# Altium footprint library INFINITY.Microchip.PcbLib: 12 footprints
Each footprint in its own frame and in the unit in brackets; x right, y up, seen from the top. Pads: shape width x height; smd on the part's side, far side on the other; paste and mask are expansions set on the pad; w line width, h text height; cw(c..) or ccw(c..) is an arc to the next point about the centre after c.
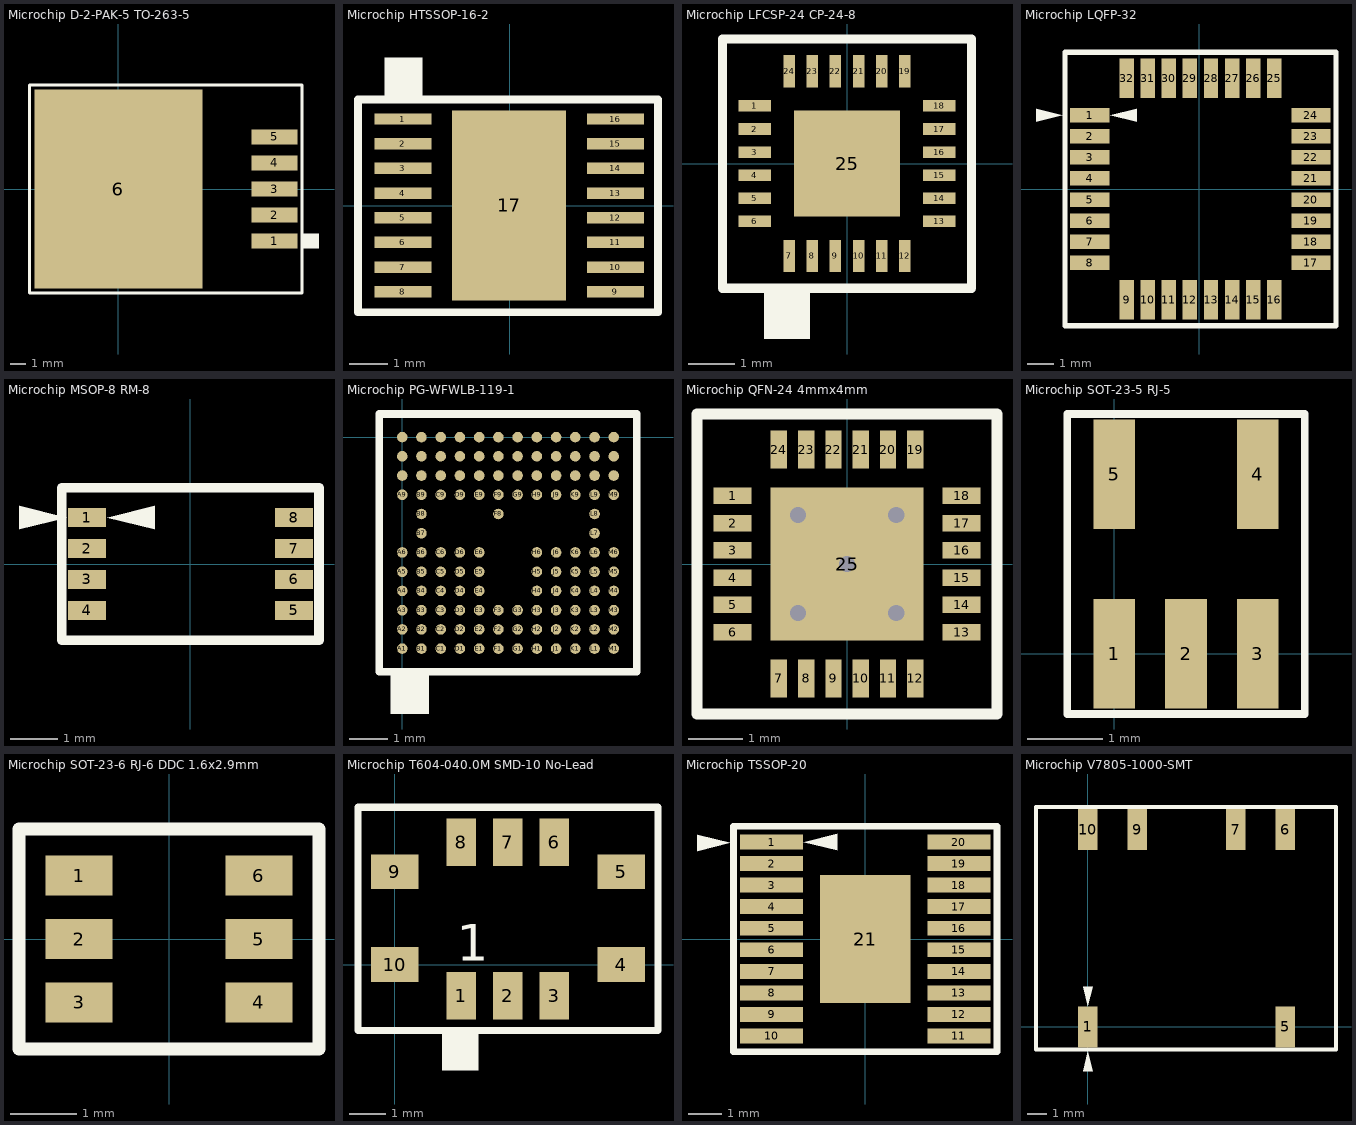
[diagram p0: the footprints below, top view; thin cyan lines are the x and y axes]

## Microchip D-2-PAK-5 TO-263-5 [mm]
pads (6):
  rect 3x1 smd: 1(10.2,-3.4) 2(10.2,-1.7) 3(10.2,0) 4(10.2,1.7) 5(10.2,3.4)
  rect 11x13 smd: 6(0,0)
Top Overlay:
  rectangle: 12.1,-3.9 13.1,-2.9
  lines w0.2: -5.8,-6.8 12,-6.8 12,6.8 -5.8,6.8 -5.8,-6.8
3D body "Microchip D-2-PAK-5 TO-263-5.STEP": height 4.56, standoff 0, extent -3.887,-5.08 10.128,5.08

## Microchip HTSSOP-16-2 [mm]
pads (17):
  rect 1.5x0.3 smd: 1(-2.821,2.286) 2(-2.821,1.636) 3(-2.821,0.986) 4(-2.821,0.336) 5(-2.821,-0.314) 6(-2.821,-0.964) 7(-2.821,-1.614) 8(-2.821,-2.264) 9(2.779,-2.264) 10(2.779,-1.614) 11(2.779,-0.964) 12(2.779,-0.314) 13(2.779,0.336) 14(2.779,0.986) 15(2.779,1.636) 16(2.779,2.286)
  rect 3x5 smd: 17(-0.021,0.011)
Top Overlay:
  rectangle: -3.3,2.9 -2.3,3.9
  lines w0.2: -4,-2.8 3.9,-2.8 3.9,2.8 -4,2.8 -4,-2.8
3D body "Microchip TSSOP-16-2.STEP": height 1.2, standoff 0, extent -3.2,-2.5 3.2,2.5

## Microchip LFCSP-24 CP-24-8 [mm]
pads (25):
  rect 0.7x0.25 smd mask+0.2: 1(-2,1.25) 2(-2,0.75) 3(-2,0.25) 4(-2,-0.25) 5(-2,-0.75) 6(-2,-1.25) 13(2,-1.25) 14(2,-0.75) 15(2,-0.25) 16(2,0.25) 17(2,0.75) 18(2,1.25)
  rect 0.25x0.7 smd mask+0.2: 7(-1.25,-2) 8(-0.75,-2) 9(-0.25,-2) 10(0.25,-2) 11(0.75,-2) 12(1.25,-2) 19(1.25,2) 20(0.75,2) 21(0.25,2) 22(-0.25,2) 23(-0.75,2) 24(-1.25,2)
  rect 2.3x2.3 smd mask+0.2: 25(0,0)
Top Overlay:
  rectangle: -1.8,-3.8 -0.8,-2.8
  lines w0.2: -2.7,-2.7 -2.7,2.7 2.7,2.7 2.7,-2.7 -2.7,-2.7
3D body "Microchip LFCSP-24 CP-24-8  v1.STEP": height 1, standoff 0, extent -2.05,-2.05 2.05,2.05
3D body: height 0.75, standoff 0.05, extent 0,0 0,0

## Microchip LQFP-32 [mm]
pads (32):
  rect 1.5x0.55 smd: 1(-4.15,2.8) 2(-4.15,2) 3(-4.15,1.2) 4(-4.15,0.4) 5(-4.15,-0.4) 6(-4.15,-1.2) 7(-4.15,-2) 8(-4.15,-2.8) 17(4.25,-2.8) 18(4.25,-2) 19(4.25,-1.2) 20(4.25,-0.4) 21(4.25,0.4) 22(4.25,1.2) 23(4.25,2) 24(4.25,2.8)
  rect 0.55x1.5 smd: 9(-2.75,-4.2) 10(-1.95,-4.2) 11(-1.15,-4.2) 12(-0.35,-4.2) 13(0.45,-4.2) 14(1.25,-4.2) 15(2.05,-4.2) 16(2.85,-4.2) 25(2.85,4.2) 26(2.05,4.2) 27(1.25,4.2) 28(0.45,4.2) 29(-0.35,4.2) 30(-1.15,4.2) 31(-1.95,4.2) 32(-2.75,4.2)
Top Overlay:
  region: -2.375,3.05 -3.375,2.8 -2.375,2.55
  region: -6.2,2.55 -5.2,2.8 -6.2,3.05
  lines w0.2: -5.1,-5.2 -5.1,5.2 5.2,5.2 5.2,-5.2 -5.1,-5.2
3D body "Microchip LQFP-32.STEP": height 1.63, standoff -0.09, extent -4.45,-4.5 4.55,4.5

## Microchip MSOP-8 RM-8 [mm]
pads (8):
  rect 0.8x0.4 smd: 1(-2.175,0.975) 3(-2.175,-0.325) 4(-2.175,-0.975) 5(2.175,-0.975) 6(2.175,-0.325) 7(2.175,0.325) 8(2.175,0.975)
  rect 0.8x0.4 smd mask+0.102: 2(-2.175,0.325)
Top Overlay:
  region: -0.75,1.225 -1.75,0.975 -0.75,0.725
  region: -3.6,0.725 -2.6,0.975 -3.6,1.225
  lines w0.2: -2.7,-1.6 2.7,-1.6 2.7,1.6 -2.7,1.6 -2.7,-1.6
3D body "Microchip MSOP-8.step": height 1.1, standoff 0.03, extent -2.51,-1.5 2.511,1.5

## Microchip PG-WFWLB-119-1 [mm]
height 0.8
pads (119):
  round 0.275 smd paste+0: A1(0,-5.5) A2(0,-5) A3(0,-4.5) A4(0,-4) A5(0,-3.5) A6(0,-3) A9(0,-1.5) A10(0,-1) A11(0,-0.5) A12(0,0) B1(0.5,-5.5) B2(0.5,-5) B3(0.5,-4.5) B4(0.5,-4) B5(0.5,-3.5) B6(0.5,-3) B7(0.5,-2.5) B8(0.5,-2) B9(0.5,-1.5) B10(0.5,-1) B11(0.5,-0.5) B12(0.5,0) C1(1,-5.5) C2(1,-5) C3(1,-4.5) C4(1,-4) C5(1,-3.5) C6(1,-3) C9(1,-1.5) C10(1,-1) C11(1,-0.5) C12(1,0) D1(1.5,-5.5) D2(1.5,-5) D3(1.5,-4.5) D4(1.5,-4) D5(1.5,-3.5) D6(1.5,-3) D9(1.5,-1.5) D10(1.5,-1) D11(1.5,-0.5) D12(1.5,0) E1(2,-5.5) E2(2,-5) E3(2,-4.5) E4(2,-4) E5(2,-3.5) E6(2,-3) E9(2,-1.5) E10(2,-1) E11(2,-0.5) E12(2,0) F1(2.5,-5.5) F2(2.5,-5) F3(2.5,-4.5) F8(2.5,-2) F9(2.5,-1.5) F10(2.5,-1) F11(2.5,-0.5) F12(2.5,0) G1(3,-5.5) G2(3,-5) G3(3,-4.5) G9(3,-1.5) G10(3,-1) G11(3,-0.5) G12(3,0) H1(3.5,-5.5) H2(3.5,-5) H3(3.5,-4.5) H4(3.5,-4) H5(3.5,-3.5) H6(3.5,-3) H9(3.5,-1.5) H10(3.5,-1) H11(3.5,-0.5) H12(3.5,0) J1(4,-5.5) J2(4,-5) J3(4,-4.5) J4(4,-4) J5(4,-3.5) J6(4,-3) J9(4,-1.5) J10(4,-1) J11(4,-0.5) J12(4,0) K1(4.5,-5.5) K2(4.5,-5) K3(4.5,-4.5) K4(4.5,-4) K5(4.5,-3.5) K6(4.5,-3) K9(4.5,-1.5) K10(4.5,-1) K11(4.5,-0.5) K12(4.5,0) L1(5,-5.5) L2(5,-5) L3(5,-4.5) L4(5,-4) L5(5,-3.5) L6(5,-3) L7(5,-2.5) L8(5,-2) L9(5,-1.5) L10(5,-1) L11(5,-0.5) L12(5,0) M1(5.5,-5.5) M2(5.5,-5) M3(5.5,-4.5) M4(5.5,-4) M5(5.5,-3.5) M6(5.5,-3) M9(5.5,-1.5) M10(5.5,-1) M11(5.5,-0.5) M12(5.5,0)
Top Overlay:
  rectangle: -0.3,-7.2 0.7,-6.2
  lines w0.2: -0.6,-6.1 6.1,-6.1 6.1,0.6 -0.6,0.6 -0.6,-6.1
3D body "Microchip PG-WFWLB-119-1.STEP": height 0.81, standoff -0.15, extent -0.25,-5.75 5.75,0.25

## Microchip QFN-24 4mmx4mm [mm]
height 1
pads (25):
  rect 0.7x0.3 smd: 1(-2.1,1.25) 2(-2.1,0.75) 3(-2.1,0.25) 4(-2.1,-0.25) 5(-2.1,-0.75) 6(-2.1,-1.25) 13(2.1,-1.25) 14(2.1,-0.75) 15(2.1,-0.25) 16(2.1,0.25) 17(2.1,0.75) 18(2.1,1.25)
  rect 0.3x0.7 smd: 7(-1.25,-2.1) 8(-0.75,-2.1) 9(-0.25,-2.1) 10(0.25,-2.1) 11(0.75,-2.1) 12(1.25,-2.1) 19(1.25,2.1) 20(0.75,2.1) 21(0.25,2.1) 22(-0.25,2.1) 23(-0.75,2.1) 24(-1.25,2.1)
  rect 2.8x2.8 smd: 25(0,0)
via 0,0 diameter 0.6 hole 0.3
via 0.9,-0.9 diameter 0.6 hole 0.3
via 0.9,0.9 diameter 0.6 hole 0.3
via -0.9,0.9 diameter 0.6 hole 0.3
via -0.9,-0.9 diameter 0.6 hole 0.3
Top Overlay:
  lines w0.2: -2.752,-2.75 2.75,-2.75 2.75,2.75 -2.752,2.75 -2.752,-2.75
  text "." at -2.925,1.3 h0.5
3D body: height 0.75, standoff 0.05, extent 0,0 0,0
3D body "Microchip LFCSP-24 CP-24-8  v1.STEP": height 1, standoff 0, extent -2.05,-2.05 2.05,2.05

## Microchip SOT-23-5 RJ-5 [mm]
pads (5):
  rect 0.55x1.45 smd: 1(0,0) 2(0.95,0) 3(1.9,0) 4(1.9,2.375) 5(0,2.375)
Top Overlay:
  lines w0.1: -0.625,-0.8 2.525,-0.8 2.525,3.175 -0.625,3.175 -0.625,-0.8
  text "." at 0.025,-1 h0.5
3D body "Microchip SOT-23-5 RJ-5.STEP": height 1.46, standoff 0, extent -0.549,-0.374 2.449,2.624

## Microchip SOT-23-6 RJ-6 DDC 1.6x2.9mm [mm]
height 1
pads (6):
  rect 1x0.6 smd: 1(-1.35,0.95) 2(-1.35,0) 3(-1.35,-0.95) 4(1.35,-0.95) 5(1.35,0) 6(1.35,0.95)
Top Overlay:
  lines w0.2: -2.25,-1.65 -2.25,1.65 2.25,1.65 2.25,-1.65 -2.25,-1.65
  text "." at -2.5,1 h0.5
3D body "Microchip SOT-23-6-2.step": height 1.45, standoff 0, extent -1.325,-1.45 1.475,1.45

## Microchip T604-040.0M SMD-10 No-Lead [mm]
pads (10):
  rect 0.8x1.3 smd: 1(1.825,-0.85) 2(3.095,-0.85) 3(4.365,-0.85) 6(4.365,3.35) 7(3.095,3.35) 8(1.825,3.35)
  rect 1.3x0.95 smd: 4(6.2,0) 5(6.2,2.54) 9(0,2.54) 10(0,0)
Top Overlay:
  rectangle: 1.3,-2.9 2.3,-1.9
  lines w0.2: -1,-1.8 7.2,-1.8 7.2,4.3 -1,4.3 -1,-1.8
  text "1" at 1.7,0.1 h1
3D body "Microchip VoltageControlledOscillator VCTCXO Connor Winfield T604-040.0M +3.3V 40 MHz 0.28ppm SMT 10-No-Lead.STEP": height 2.01, standoff 0, extent -0.4,-1.3 6.6,3.7

## Microchip TSSOP-20 [mm]
pads (21):
  rect 1.9x0.45 smd: 1(-2.825,2.925) 2(-2.825,2.275) 3(-2.825,1.625) 4(-2.825,0.975) 5(-2.825,0.325) 6(-2.825,-0.325) 7(-2.825,-0.975) 8(-2.825,-1.625) 9(-2.825,-2.275) 10(-2.825,-2.925) 11(2.825,-2.925) 12(2.825,-2.275) 13(2.825,-1.625) 14(2.825,-0.975) 15(2.825,-0.325) 16(2.825,0.325) 17(2.825,0.975) 18(2.825,1.625) 19(2.825,2.275) 20(2.825,2.925)
  rect 2.74x3.86 smd: 21(0,0)
Top Overlay:
  region: -0.85,3.175 -1.85,2.925 -0.85,2.675
  region: -5.075,2.65 -4.075,2.9 -5.075,3.15
  lines w0.2: -3.975,-3.4 3.975,-3.4 3.975,3.4 -3.975,3.4 -3.975,-3.4
3D body "Microchip TSSOP-20.step": height 1.2, standoff 0, extent -3.3,-3.3 3.3,3.3

## Microchip V7805-1000-SMT [mm]
pads (6):
  rect 1x2.1 smd: 1(0,0) 5(10.16,0) 6(10.16,10.16) 7(7.62,10.16) 9(2.54,10.16) 10(0,10.16)
Top Overlay:
  region: 0.25,-2.275 0,-1.275 -0.25,-2.275
  region: -0.25,2.075 0,1.075 0.25,2.075
  lines w0.2: -2.675,-1.175 -2.675,11.325 12.775,11.325 12.775,-1.175 -2.675,-1.175
3D body "v7805-1000-smt.stp": height 7.2, standoff -0.05, extent -2.569,-0.978 12.671,11.122